# Altium schematic symbol library CONN_3P_mech.SchLib: 1 symbol
Pins are listed as number, name and electrical type; pins without a type are passive.

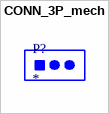
[diagram p0: symbol CONN_3P_mech]

## CONN_3P_mech
designator P?  (mechanical)
Value: *